# Altium footprint library rocket.PcbLib: 33 footprints (part 3 of 3)
Each footprint in its own frame and in the unit in brackets; x right, y up, seen from the top. Pads: shape width x height; smd on the part's side, far side on the other; paste and mask are expansions set on the pad; w line width, h text height; cw(c..) or ccw(c..) is an arc to the next point about the centre after c.
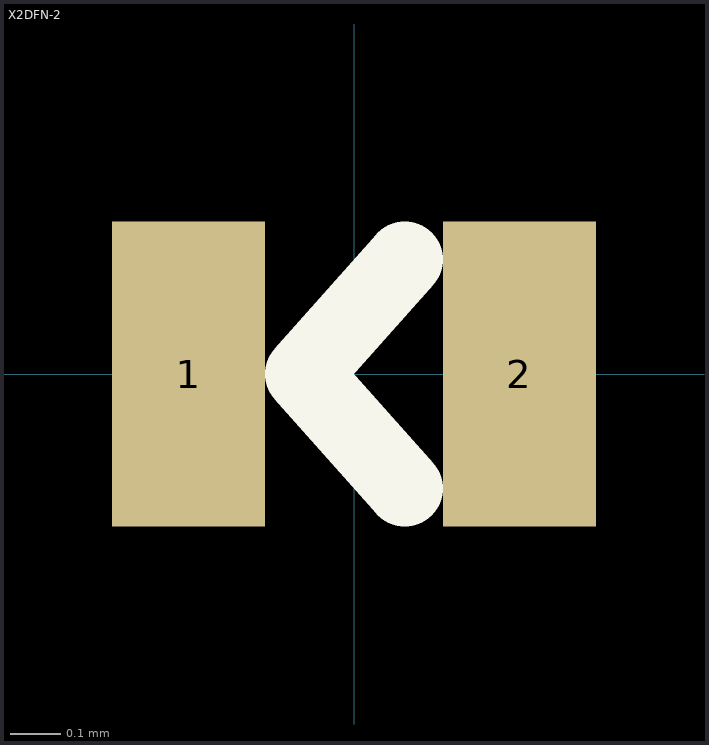
[diagram p2: the footprint, top view; thin cyan lines are the x and y axes]

## X2DFN-2 [mm]
pads (2):
  rect 0.3x0.6 smd: 1(-0.325,0) 2(0.325,0)
Top Overlay:
  lines w0.15: 0.1,-0.225 -0.1,0 0.1,0.225
3D body "x2dfn-2.stp": height 0.4, standoff 0, extent -0.5,-0.3 0.5,0.3